# EAGLE library part ISL78693ARZ-T7A (library Battery Chargers)
Charger IC Lithium Ion/Polymer 10-DFN (3x3) Manufacturer's datasheet <https://www.renesas.com/us/en/www/doc/datasheet/isl78693.pdf>
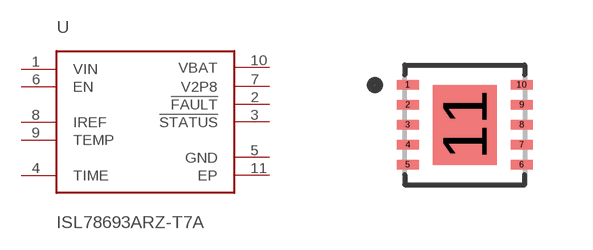
[diagram p18: symbol with the pads of ISL78693ARZ-T7A; footprint ISL78693ARZ-T7A]

Designator prefix U

## ISL78693ARZ-T7A (CREATED_BY: PCBLayout.com; DIGIKEY_PART_NUMBER: ISL78693ARZ-T7ACT-ND; MANUFACTURER: Renesas Electronics America Inc; MPN: ISL78693ARZ-T7A; PACKAGE: 10-DFN)  [ISL78693ARZ-T7A]
1  VIN  in
2  !FAULT  out
3  !STATUS  out
4  TIME  pas
5  GND  pwr
6  EN  in
7  V2P8  out
8  IREF  in
9  TEMP  in
10  VBAT  pwr
11  EP  pwr

## Footprint ISL78693ARZ-T7A (pad centres in mm)
smd 0.55 x 0.23: 1 -1.425,1; 2 -1.425,0.5; 3 -1.425,0; 4 -1.425,-0.5; 5 -1.425,-1; 6 1.425,-1; 7 1.425,-0.5; 8 1.425,0; 9 1.425,0.5; 10 1.425,1
smd 1.6 x 2: 11 0,0